# Altium footprint library PEI_PCB_1.1.PcbLib: 310 footprints (part 5 of 20)
Each footprint in its own frame and in the unit in brackets; x right, y up, seen from the top. Pads: shape width x height; smd on the part's side, far side on the other; paste and mask are expansions set on the pad; w line width, h text height; cw(c..) or ccw(c..) is an arc to the next point about the centre after c.
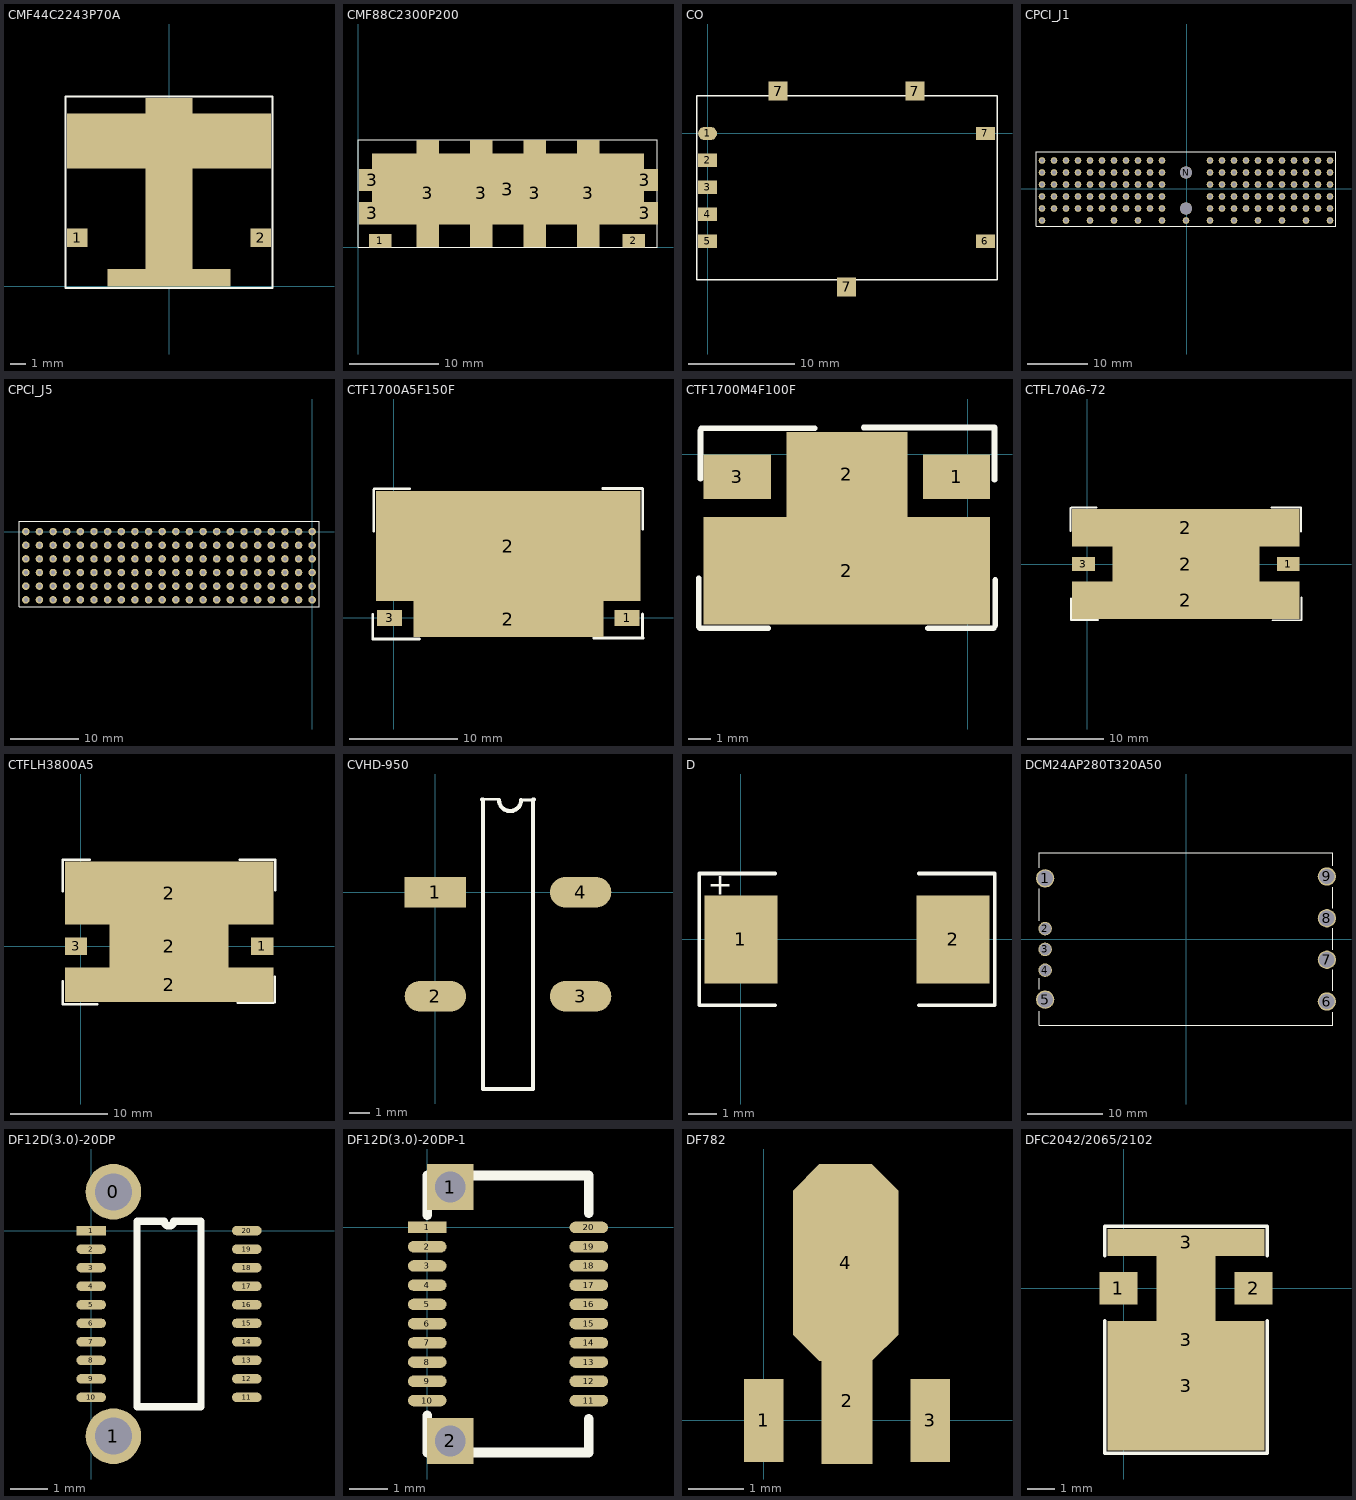
[diagram p4: the footprints below, top view; thin cyan lines are the x and y axes]

## CMF44C2243P70A [mm]
pads (5):
  rect 1.3x1.2 smd: 1(-5.85,3.1) 2(5.85,3.1)
  rect 7.8x1.1 smd: ""(0,0.55)
  rect 3x12 smd: ""(0,6)
  rect 13x3.5 smd: ""(0,9.25)
TopOverlay:
  lines w0.127: -6.6,-0.1 -6.6,12.1 6.6,12.1 6.6,-0.1 -6.6,-0.1

## CMF88C2300P200 [mm]
pads (11):
  rect 2.5x1.5 smd: 1(2.5,0.7) 2(30.9,0.7)
  rect 3x2.5 smd: 3(1.6,3.8) 3(1.6,7.5) 3(32.1,3.8) 3(32.1,7.5)
  rect 2.5x12 smd: 3(7.8,6) 3(13.8,6) 3(19.8,6) 3(25.8,6)
  rect 30.5x8 smd: 3(16.8,6.5)
TopOverlay:
  lines w0.127: 0,0 0,12 33.5,12 33.5,0 0,0

## CO [mil]
pads (10):
  oval 70x50 smd: 1(0,0)
  rect 70x50 smd: 2(0,-100) 3(0,-200) 4(0,-300) 5(0,-400) 6(1030,-400) 7(1030,0)
  rect 70x70 smd: 7(261.46,157.48) 7(515,-569) 7(768.54,157.48)
TopOverlay:
  lines w5: -39.37,-541.34 1072.84,-541.34 1072.84,139.76 -39.37,139.76 -39.37,-541.34

## CPCI_J1 [mm]
pads (125):
  round 1.1 hole 0.6: A1(23.901,4.75) A2(21.901,4.75) A3(19.901,4.75) A4(17.901,4.75) A5(15.901,4.75) A6(13.901,4.75) A7(11.901,4.75) A8(9.901,4.75) A9(7.901,4.75) A10(5.901,4.75) A11(3.901,4.75) A15(-4.099,4.75) A16(-6.099,4.75) A17(-8.099,4.75) A18(-10.099,4.75) A19(-12.099,4.75) A20(-14.099,4.75) A21(-16.099,4.75) A22(-18.099,4.75) A23(-20.099,4.75) A24(-22.099,4.75) A25(-24.099,4.75) B1(23.901,2.75) B2(21.901,2.75) B3(19.901,2.75) B4(17.901,2.75) B5(15.901,2.75) B6(13.901,2.75) B7(11.901,2.75) B8(9.901,2.75) B9(7.901,2.75) B10(5.901,2.75) B11(3.901,2.75) B15(-4.099,2.75) B16(-6.099,2.75) B17(-8.099,2.75) B18(-10.099,2.75) B19(-12.099,2.75) B20(-14.099,2.75) B21(-16.099,2.75) B22(-18.099,2.75) B23(-20.099,2.75) B24(-22.099,2.75) B25(-24.099,2.75) C1(23.901,0.75) C2(21.901,0.75) C3(19.901,0.75) C4(17.901,0.75) C5(15.901,0.75) C6(13.901,0.75) C7(11.901,0.75) C8(9.901,0.75) C9(7.901,0.75) C10(5.901,0.75) C11(3.901,0.75) C15(-4.099,0.75) C16(-6.099,0.75) C17(-8.099,0.75) C18(-10.099,0.75) C19(-12.099,0.75) C20(-14.099,0.75) C21(-16.099,0.75) C22(-18.099,0.75) C23(-20.099,0.75) C24(-22.099,0.75) C25(-24.099,0.75) D1(23.901,-1.25) D2(21.901,-1.25) D3(19.901,-1.25) D4(17.901,-1.25) D5(15.901,-1.25) D6(13.901,-1.25) D7(11.901,-1.25) D8(9.901,-1.25) D9(7.901,-1.25) D10(5.901,-1.25) D11(3.901,-1.25) D15(-4.099,-1.25) D16(-6.099,-1.25) D17(-8.099,-1.25) D18(-10.099,-1.25) D19(-12.099,-1.25) D20(-14.099,-1.25) D21(-16.099,-1.25) D22(-18.099,-1.25) D23(-20.099,-1.25) D24(-22.099,-1.25) D25(-24.099,-1.25) E1(23.901,-3.25) E2(21.901,-3.25) E3(19.901,-3.25) E4(17.901,-3.25) E5(15.901,-3.25) E6(13.901,-3.25) E7(11.901,-3.25) E8(9.901,-3.25) E9(7.901,-3.25) E10(5.901,-3.25) E11(3.901,-3.25) E15(-4.099,-3.25) E16(-6.099,-3.25) E17(-8.099,-3.25) E18(-10.099,-3.25) E19(-12.099,-3.25) E20(-14.099,-3.25) E21(-16.099,-3.25) E22(-18.099,-3.25) E23(-20.099,-3.25) E24(-22.099,-3.25) E25(-24.099,-3.25) F1(23.901,-5.25) F3(19.901,-5.25) F5(15.901,-5.25) F7(11.901,-5.25) F9(7.901,-5.25) F11(3.901,-5.25) F13(-0.099,-5.25) F15(-4.099,-5.25) F17(-8.099,-5.25) F19(-12.099,-5.25) F21(-16.099,-5.25) F23(-20.099,-5.25) F25(-24.099,-5.25)
  round 2 hole 2: N(-0.099,2.75) N/2(-0.099,-3.25)
TopOverlay:
  lines w0.127: -25.099,-6.25 24.901,-6.25 24.901,6.25 -25.099,6.25 -25.099,-6.25

## CPCI_J5 [mm]
pads (132):
  round 1.1 hole 0.6: A1(0,0) A2(-2,0) A3(-4,0) A4(-6,0) A5(-8,0) A6(-10,0) A7(-12,0) A8(-14,0) A9(-16,0) A10(-18,0) A11(-20,0) A12(-22,0) A13(-24,0) A14(-26,0) A15(-28,0) A16(-30,0) A17(-32,0) A18(-34,0) A19(-36,0) A20(-38,0) A21(-40,0) A22(-42,0) B1(0,-2) B2(-2,-2) B3(-4,-2) B4(-6,-2) B5(-8,-2) B6(-10,-2) B7(-12,-2) B8(-14,-2) B9(-16,-2) B10(-18,-2) B11(-20,-2) B12(-22,-2) B13(-24,-2) B14(-26,-2) B15(-28,-2) B16(-30,-2) B17(-32,-2) B18(-34,-2) B19(-36,-2) B20(-38,-2) B21(-40,-2) B22(-42,-2) C1(0,-4) C2(-2,-4) C3(-4,-4) C4(-6,-4) C5(-8,-4) C6(-10,-4) C7(-12,-4) C8(-14,-4) C9(-16,-4) C10(-18,-4) C11(-20,-4) C12(-22,-4) C13(-24,-4) C14(-26,-4) C15(-28,-4) C16(-30,-4) C17(-32,-4) C18(-34,-4) C19(-36,-4) C20(-38,-4) C21(-40,-4) C22(-42,-4) D1(0,-6) D2(-2,-6) D3(-4,-6) D4(-6,-6) D5(-8,-6) D6(-10,-6) D7(-12,-6) D8(-14,-6) D9(-16,-6) D10(-18,-6) D11(-20,-6) D12(-22,-6) D13(-24,-6) D14(-26,-6) D15(-28,-6) D16(-30,-6) D17(-32,-6) D18(-34,-6) D19(-36,-6) D20(-38,-6) D21(-40,-6) D22(-42,-6) E1(0,-8) E2(-2,-8) E3(-4,-8) E4(-6,-8) E5(-8,-8) E6(-10,-8) E7(-12,-8) E8(-14,-8) E9(-16,-8) E10(-18,-8) E11(-20,-8) E12(-22,-8) E13(-24,-8) E14(-26,-8) E15(-28,-8) E16(-30,-8) E17(-32,-8) E18(-34,-8) E19(-36,-8) E20(-38,-8) E21(-40,-8) E22(-42,-8) F1(0,-10) F2(-2,-10) F3(-4,-10) F4(-6,-10) F5(-8,-10) F6(-10,-10) F7(-12,-10) F8(-14,-10) F9(-16,-10) F10(-18,-10) F11(-20,-10) F12(-22,-10) F13(-24,-10) F14(-26,-10) F15(-28,-10) F16(-30,-10) F17(-32,-10) F18(-34,-10) F19(-36,-10) F20(-38,-10) F21(-40,-10) F22(-42,-10)
TopOverlay:
  lines w0.127: -43,-11 1,-11 1,1.5 -43,1.5 -43,-11

## CTF1700A5F150F [mm]
pads (4):
  rect 2.3x1.5 smd: 1(21.6,0) 3(-0.4,0)
  rect 17.6x3.3 smd: 2(10.6,-0.1)
  rect 24.5x10.2 smd: 2(10.6,6.65)
TopOverlay:
  lines w0.254: -1.956,-1.956 2.362,-1.956 ; -1.956,-1.829 -1.956,0.33 ; -1.88,8.052 -1.88,11.862 ; -1.829,11.963 1.473,11.963 ; 18.517,-1.854 23.089,-1.854 ; 19.355,11.989 23.038,11.989 ; 23.038,-1.803 23.038,0.356 ; 23.063,8.23 23.063,11.913

## CTF1700M4F100F [mm]
pads (4):
  rect 3x2 smd: 1(-0.5,-1) 3(-10.3,-1)
  rect 12.8x4.8 smd: 2(-5.4,-5.2)
  rect 5.4x3.8 smd: 2(-5.4,-0.9)
TopOverlay:
  lines w0.254: -12.014,-7.696 -12.014,-5.537 ; -11.963,-7.772 -8.915,-7.772 ; -11.938,-1.092 -11.938,1.067 ; -11.913,1.168 -6.833,1.168 ; -4.648,1.194 1.194,1.194 ; -1.778,-7.772 1.143,-7.772 ; 1.194,-1.143 1.194,1.143 ; 1.219,-7.645 1.219,-5.613

## CTFL70A6-72 [mm]
pads (5):
  rect 3x1.8 smd: 1(26.5,0) 3(-0.5,0)
  rect 30x4.95 smd: 2(13,-4.775) 2(13,4.775)
  rect 19.4x4.6 smd: 2(13,0)
TopOverlay:
  lines w0.254: -2.21,4.343 -2.21,7.391 ; -2.159,-7.366 -2.159,-4.572 ; -2.134,-7.391 1.422,-7.391 ; -2.057,7.442 1.245,7.442 ; 24.282,7.468 28.092,7.468 ; 24.435,-7.417 28.245,-7.417 ; 28.194,4.293 28.194,7.468 ; 28.219,-7.341 28.219,-4.42

## CTFLH3800A5 [mm]
pads (5):
  rect 2.3x1.8 smd: 1(18.7,0) 3(-0.5,0)
  rect 21.5x3.6 smd: 2(9.1,-4)
  rect 12.3x4.4 smd: 2(9.1,0)
  rect 21.5x6.5 smd: 2(9.1,5.45)
TopOverlay:
  lines w0.254: -1.854,-5.994 1.702,-5.994 ; -1.854,-5.893 -1.854,-3.607 ; -1.854,5.664 -1.854,8.839 ; -1.854,8.89 0.94,8.89 ; 16.18,-5.867 19.863,-5.867 ; 16.383,8.915 19.939,8.915 ; 20.015,-5.817 20.015,-3.15 ; 20.041,5.74 20.041,8.915

## CVHD-950 [mm]
pads (4):
  rect 3x1.5 smd: 1(0,0)
  oval 3x1.5 smd: 2(0,-5.08) 3(7.11,-5.08) 4(7.11,0)
TopOverlay:
  lines w0.127: 2.343,4.547 3.083,4.547 ; 4.197,4.511 4.797,4.511
  lines w0.2: 2.293,4.547 2.343,4.547 ; 2.327,-9.624 4.767,-9.624 ; 2.335,-9.62 2.335,4.54 ; 3.118,4.511 ccw(c3.658,4.511) 4.197,4.511 ; 4.775,-9.62 4.775,4.54 ; 4.783,4.547 4.833,4.547

## D [mil]
pads (2):
  rect 100x120 smd: 1(0,0) 2(290,0)
TopOverlay:
  lines w5: 47,-90 -57,-90 -57,90 47,90 ; 243,-90 347,-90 347,90 243,90
  text "+" at -45,61 h30

## DCM24AP280T320A50 [mil]
pads (9):
  round 95 hole 80: 1(-732,315) 5(-732,-315) 6(732,-325) 7(732,-108) 8(732,108) 9(732,325)
  round 70 hole 60: 2(-732,54) 3(-732,-54) 4(-732,-162)
TopOverlay:
  lines w5: -762,-375 -762,-449 762,-449 762,-380 ; -762,-260 -762,-205 ; -762,95 -762,260 ; -762,370 -762,449 762,449 762,380 ; 762,-270 762,-160 ; 762,-55 762,55 ; 762,160 762,270

## DF12D(3.0)-20DP [mm]
pads (22):
  round 1.5 hole 1: 0(0.6,1.05) 1(0.6,-5.55)
  rect 0.8x0.25 smd: 1(0,0)
  oval 0.8x0.25 smd: 2(0,-0.5) 3(0,-1) 4(0,-1.5) 5(0,-2) 6(0,-2.5) 7(0,-3) 8(0,-3.5) 9(0,-4) 10(0,-4.5) 11(4.2,-4.5) 12(4.2,-4) 13(4.2,-3.5) 14(4.2,-3) 15(4.2,-2.5) 16(4.2,-2) 17(4.2,-1.5) 18(4.2,-1) 19(4.2,-0.5) 20(4.2,0)
TopOverlay:
  lines w0.2: 1.235,-4.75 2.965,-4.75 2.965,0.25 2.225,0.25 cw(c2.1,0.25) 1.975,0.25 1.235,0.25 1.235,-4.75

## DF12D(3.0)-20DP-1 [mm]
pads (22):
  rect 1x0.3 smd: 1(0,0)
  rect 1.2x1.2 hole 0.8: 1(0.6,1.05) 2(0.6,-5.55)
  oval 1x0.3 smd: 2(0,-0.5) 3(0,-1) 4(0,-1.5) 5(0,-2) 6(0,-2.5) 7(0,-3) 8(0,-3.5) 9(0,-4) 10(0,-4.5) 11(4.2,-4.5) 12(4.2,-4) 13(4.2,-3.5) 14(4.2,-3) 15(4.2,-2.5) 16(4.2,-2) 17(4.2,-1.5) 18(4.2,-1) 19(4.2,-0.5) 20(4.2,0)
TopOverlay:
  lines w0.254: 0,-4.882 0,-5.85 4.2,-5.85 4.2,-4.971 ; 0,0.318 0,1.35 4.2,1.35 4.2,0.371

## DF782 [mil]
pads (4):
  rect 28x59 smd: 1(0,0) 3(118,0)
  rect 36x90 smd: 2(59,14)
  oct 75x140 smd: 4(58,112)

## DFC2042/2065/2102 [mm]
pads (5):
  rect 1.4x1.2 smd: 1(-0.2,0) 2(4.8,0)
  rect 5.8x4.8 smd: 3(2.3,-3.6)
  rect 2.2x8.2 smd: 3(2.3,-1.9)
  rect 5.8x1 smd: 3(2.3,1.7)
TopOverlay:
  lines w0.127: -0.7,-1.2 -0.7,-6.1 5.3,-6.1 5.3,-1.2 ; -0.7,1.2 -0.7,2.3 5.3,2.3 5.3,1.2